# Altium schematic symbol library MCP73831T-2ACI_OT.Schlib: 1 symbol
Pins are listed as number, name and electrical type; pins without a type are passive.

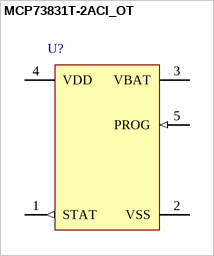
[diagram p0: symbol MCP73831T-2ACI_OT]

## MCP73831T-2ACI_OT
designator U?
pins: 1 STAT (out), 2 VSS, 3 VBAT, 4 VDD, 5 PROG (in)